# Altium footprint library black_V5.PcbLib: 23 footprints (part 2 of 2)
Each footprint in its own frame and in the unit in brackets; x right, y up, seen from the top. Pads: shape width x height; smd on the part's side, far side on the other; paste and mask are expansions set on the pad; w line width, h text height; cw(c..) or ccw(c..) is an arc to the next point about the centre after c.
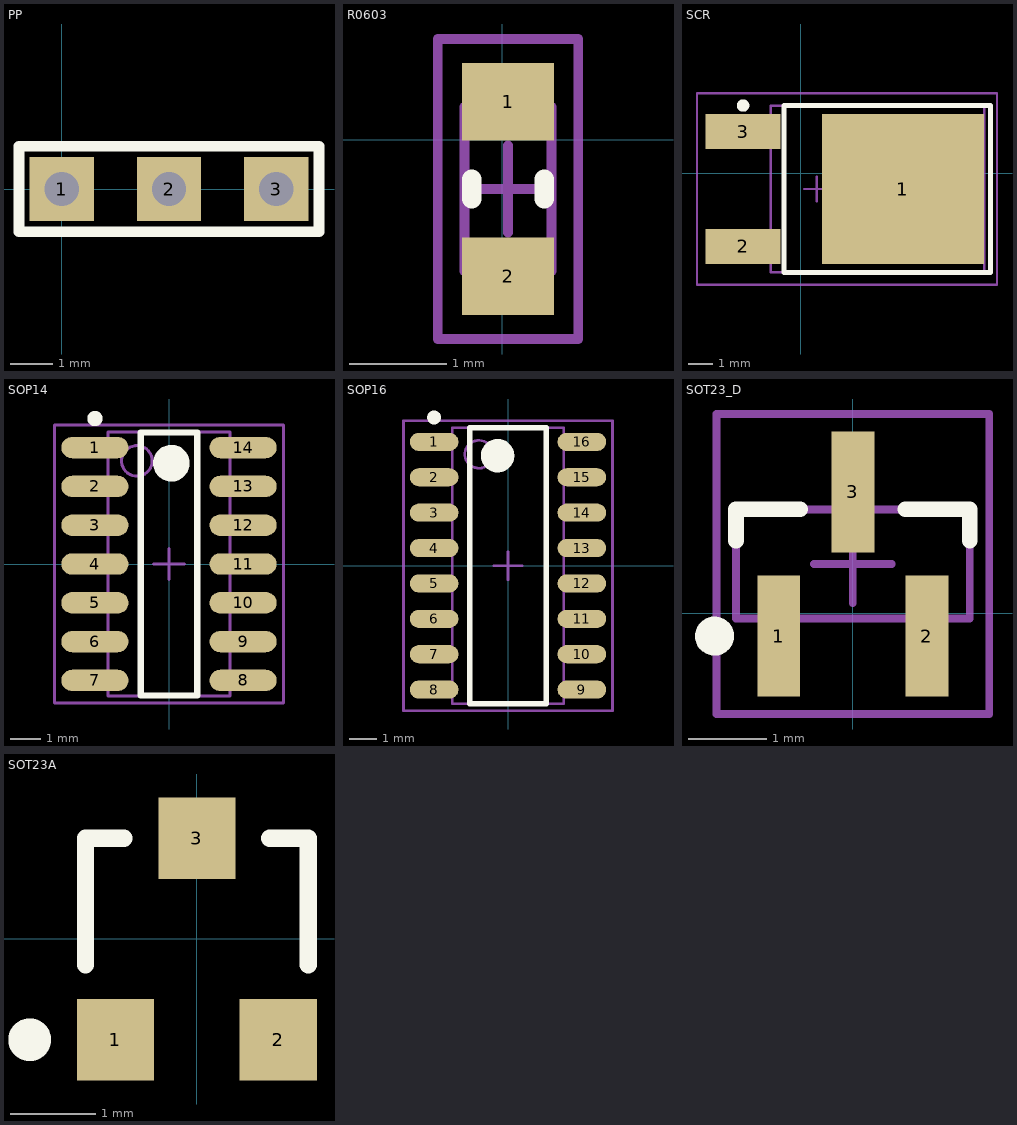
[diagram p1: the footprints below, top view; thin cyan lines are the x and y axes]

## PP [mil]
pads (3):
  rect 60x60 hole 32: 1(0,0) 2(100,0) 3(200,0)
Top Overlay:
  lines w10: -40,-40 -40,40 240,40 240,0 240,-40 -40,-40
Bottom Overlay:
  lines w10: -40,-40 240,-40 240,40 -40,40 -40,-40

## R0603 [mm]
height 2.54
pads (2):
  rect 0.95x0.8 smd: 1(0.06,0.392) 2(0.06,-1.408)
Top Overlay:
  lines w0.2: -0.315,-0.608 -0.315,-0.408 ; 0.435,-0.608 0.435,-0.408
Mechanical 13:
  lines w0.1: -0.39,-1.358 -0.39,0.342 0.51,0.342 0.51,-1.358 -0.39,-1.358
Mechanical 15:
  lines w0.1: -0.39,-0.508 0.51,-0.508 ; 0.06,-0.958 0.06,-0.058 ; -0.665,-2.058 -0.665,1.042 0.785,1.042 0.785,-2.058 -0.665,-2.058
3D body: height 0.6, standoff 0, extent -0.39,-1.358 0.51,0.342

## SCR [mm]
height 5.08
pads (3):
  rect 6.5x6 smd: 1(4.095,-0.635)
  rect 3x1.4 smd: 2(-2.315,-2.935) 3(-2.315,1.665)
Top Overlay:
  circle w0.25: c-2.315,2.715 r0.125
  lines w0.2: -0.665,-3.985 7.62,-3.985 7.62,2.715 -0.665,2.715 -0.665,-3.985
Mechanical 13:
  lines w0.1: -1.215,-3.985 7.366,-3.985 7.366,2.715 -1.215,2.715 -1.215,-3.985
Mechanical 15:
  lines w0.1: 0.135,-0.635 1.135,-0.635 ; 0.635,-1.135 0.635,-0.135 ; -4.165,-4.485 7.874,-4.485 7.874,3.215 -4.165,3.215 -4.165,-4.485
3D body: height 1.8, standoff 0, extent -1.215,-3.985 7.239,2.715

## SOP14 [mm] "TSOP, 14-Leads, Body 8.6x4.0mm (max), Pitch 1.27mm, IPC Medium Density"
height 1
pads (14):
  oval 2.2x0.7 smd: 1(-2.425,3.81) 2(-2.425,2.54) 3(-2.425,1.27) 4(-2.425,0) 5(-2.425,-1.27) 6(-2.425,-2.54) 7(-2.425,-3.81) 8(2.425,-3.81) 9(2.425,-2.54) 10(2.425,-1.27) 11(2.425,0) 12(2.425,1.27) 13(2.425,2.54) 14(2.425,3.81)
Top Overlay:
  circle w0.6: c0.075,3.3 r0.3
  circle w0.25: c-2.425,4.76 r0.125
  lines w0.2: -0.925,-4.3 0.925,-4.3 0.925,4.3 -0.925,4.3 -0.925,-4.3
Mechanical 13:
  circle w0.1: c-1.05,3.375 r0.5
  lines w0.1: -2,-4.325 2,-4.325 2,4.325 -2,4.325 -2,-4.325
Mechanical 15:
  lines w0.1: -0.5,0 0.5,0 ; 0,-0.5 0,0.5 ; -3.75,-4.55 3.75,-4.55 3.75,4.55 -3.75,4.55 -3.75,-4.55
3D body: height 1, standoff 0.1, extent -2,-4.325 2,4.325

## SOP16 [mm] "TSOP, 16-Leads, Body 9.9x4.0mm (max), Pitch 1.27mm, IPC Medium Density"
height 1
pads (16):
  oval 1.75x0.65 smd: 1(-2.65,4.445) 2(-2.65,3.175) 3(-2.65,1.905) 4(-2.65,0.635) 5(-2.65,-0.635) 6(-2.65,-1.905) 7(-2.65,-3.175) 8(-2.65,-4.445) 9(2.65,-4.445) 10(2.65,-3.175) 11(2.65,-1.905) 12(2.65,-0.635) 13(2.65,0.635) 14(2.65,1.905) 15(2.65,3.175) 16(2.65,4.445)
Top Overlay:
  circle w0.25: c-2.65,5.32 r0.125
  circle w0.6: c-0.375,3.95 r0.3
  lines w0.2: -1.375,-4.95 -1.375,4.95 1.375,4.95 1.375,-4.95 -1.375,-4.95
Mechanical 13:
  circle w0.1: c-1.05,4 r0.5
  lines w0.1: -2,-4.95 -2,4.95 2,4.95 2,-4.95 -2,-4.95
Mechanical 15:
  lines w0.1: -0.5,0 0.5,0 ; 0,-0.5 0,0.5 ; -3.75,-5.2 -3.75,5.2 3.75,5.2 3.75,-5.2 -3.75,-5.2
3D body: height 1, standoff 0.1, extent -2,-4.95 2,4.95

## SOT23_D [mm]
pads (3):
  rect 0.55x1.55 smd: 1(-0.95,-0.29) 2(0.95,-0.29) 3(0,1.56)
Top Overlay:
  circle w0.25: c-1.775,-0.29 r0.125
  lines w0.2: -1.5,0.935 -1.5,1.335 -0.675,1.335 ; 0.675,1.335 1.5,1.335 1.5,0.935
Mechanical 13:
  lines w0.1: -1.5,-0.065 -1.5,1.335 1.5,1.335 1.5,-0.065 -1.5,-0.065
Mechanical 15:
  lines w0.1: -0.5,0.635 0.5,0.635 ; 0,0.135 0,1.135 ; -1.75,-1.29 -1.75,2.56 1.75,2.56 1.75,-1.29 -1.75,-1.29
3D body: height 1.1, standoff 0.05, extent -1.5,-0.065 1.5,1.335

## SOT23A [mm] "SOT-23; 3 Leads; Body 3.0 x 2.5 mm, inc. leads (LxW max)"
height 1.2
pads (3):
  rect 0.9x0.95 smd: 1(-0.95,-1.175) 2(0.95,-1.175) 3(0,1.175)
Top Overlay:
  circle w0.25: c-1.95,-1.175 r0.125
  lines w0.2: -1.3,-0.3 -1.3,1.175 -0.85,1.175 ; 0.85,1.175 1.3,1.175 1.3,-0.3